# Altium footprint library PcbLib1.PcbLib: 8 footprints
Each footprint in its own frame and in the unit in brackets; x right, y up, seen from the top. Pads: shape width x height; smd on the part's side, far side on the other; paste and mask are expansions set on the pad; w line width, h text height; cw(c..) or ccw(c..) is an arc to the next point about the centre after c.
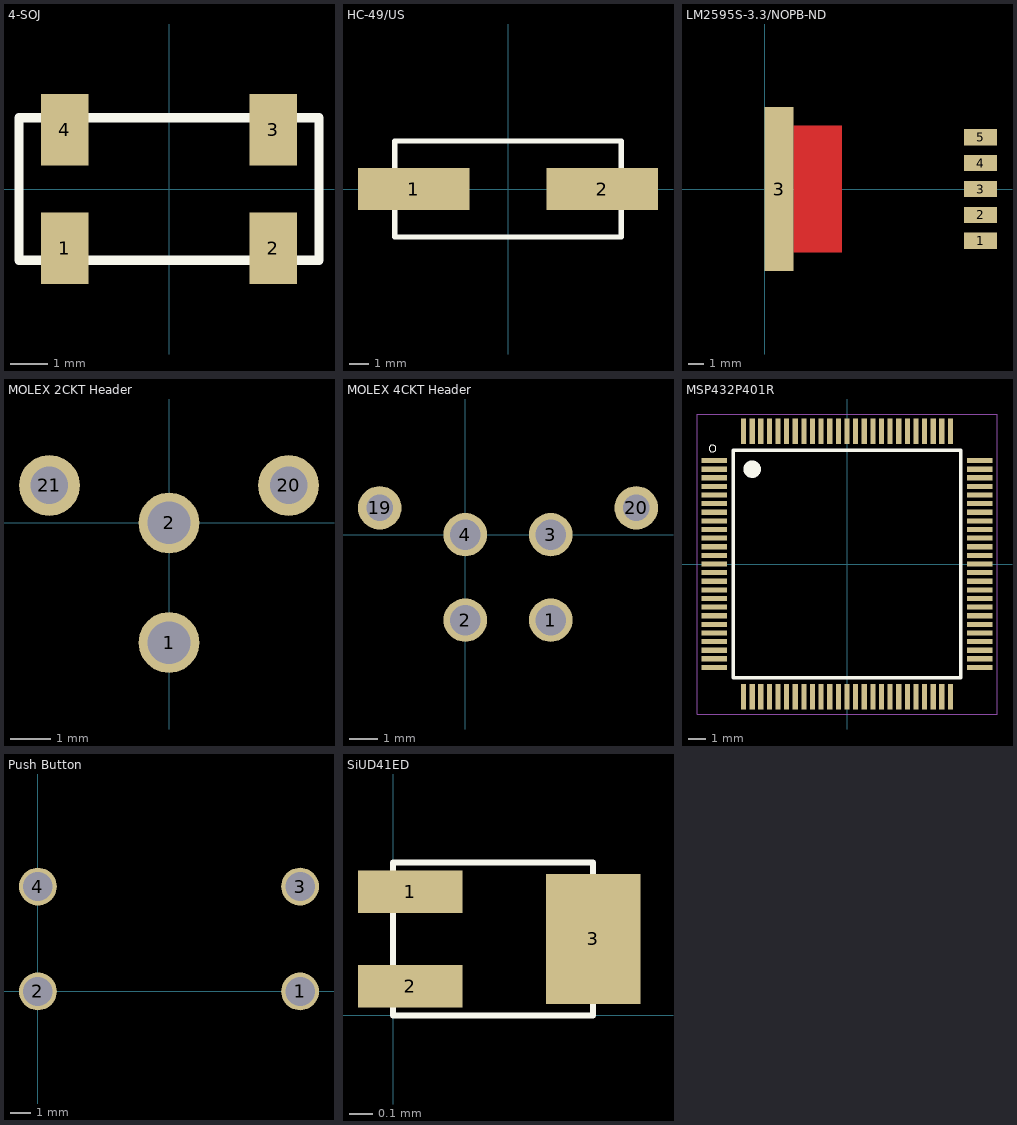
[diagram p0: the footprints below, top view; thin cyan lines are the x and y axes]

## 4-SOJ [mil]
pads (4):
  rect 50x75 smd: 1(-110,-62.5) 2(110,-62.5) 3(110,62.5) 4(-110,62.5)
Top Overlay:
  lines w10: -158,-75 158,-75 158,75 -158,75 -158,-75

## HC-49/US [mil]
pads (2):
  rect 222x83 smd: 1(-187,0) 2(187,0)
Top Overlay:
  lines w10: -225,-95 -225,95 225,95 225,-95 -225,-95

## LM2595S-3.3/NOPB-ND [mil]
pads (6):
  rect 85x42 smd: 1(558,-134) 2(558,-67) 3(558,0) 4(558,67) 5(558,134)
  rect 75x425 smd: 3(37.5,0)
Top Layer:
  rectangle: 75,-164 200,164
  rectangle: 75,-164 200,164
Top Paste:
  rectangle: 75,-164 200,164

## MOLEX 2CKT Header [mil]
pads (4):
  round 60 hole 42: 1(0,-118) 2(0,0)
  round 60 hole 37: 20(118,37) 21(-118,37)
3D body "449140201.stp": height 395.08, standoff -120.28, extent -140.74,-214.16 140.76,131.11

## MOLEX 4CKT Header [mil]
pads (6):
  round 60 hole 42: 1(118,-118) 2(0,-118) 3(118,0) 4(0,0)
  round 60 hole 37: 19(-118,37) 20(236,37)
3D body "449140401.stp": height 395.08, standoff -120.28, extent -140.74,-214.16 258.86,131.11

## MSP432P401R [mm]
pads (100):
  rect 1.5x0.3 smd: 1(-7.7,6) 2(-7.7,5.5) 3(-7.7,5) 4(-7.7,4.5) 5(-7.7,4) 6(-7.7,3.5) 7(-7.7,3) 8(-7.7,2.5) 9(-7.7,2) 10(-7.7,1.5) 11(-7.7,1) 12(-7.7,0.5) 13(-7.7,0) 14(-7.7,-0.5) 15(-7.7,-1) 16(-7.7,-1.5) 17(-7.7,-2) 18(-7.7,-2.5) 19(-7.7,-3) 20(-7.7,-3.5) 21(-7.7,-4) 22(-7.7,-4.5) 23(-7.7,-5) 24(-7.7,-5.5) 25(-7.7,-6) 51(7.7,-6) 52(7.7,-5.5) 53(7.7,-5) 54(7.7,-4.5) 55(7.7,-4) 56(7.7,-3.5) 57(7.7,-3) 58(7.7,-2.5) 59(7.7,-2) 60(7.7,-1.5) 61(7.7,-1) 62(7.7,-0.5) 63(7.7,0) 64(7.7,0.5) 65(7.7,1) 66(7.7,1.5) 67(7.7,2) 68(7.7,2.5) 69(7.7,3) 70(7.7,3.5) 71(7.7,4) 72(7.7,4.5) 73(7.7,5) 74(7.7,5.5) 75(7.7,6)
  rect 0.3x1.5 smd: 26(-6,-7.7) 27(-5.5,-7.7) 28(-5,-7.7) 29(-4.5,-7.7) 30(-4,-7.7) 31(-3.5,-7.7) 32(-3,-7.7) 33(-2.5,-7.7) 34(-2,-7.7) 35(-1.5,-7.7) 36(-1,-7.7) 37(-0.5,-7.7) 38(0,-7.7) 39(0.5,-7.7) 40(1,-7.7) 41(1.5,-7.7) 42(2,-7.7) 43(2.5,-7.7) 44(3,-7.7) 45(3.5,-7.7) 46(4,-7.7) 47(4.5,-7.7) 48(5,-7.7) 49(5.5,-7.7) 50(6,-7.7) 76(6,7.7) 77(5.5,7.7) 78(5,7.7) 79(4.5,7.7) 80(4,7.7) 81(3.5,7.7) 82(3,7.7) 83(2.5,7.7) 84(2,7.7) 85(1.5,7.7) 86(1,7.7) 87(0.5,7.7) 88(0,7.7) 89(-0.5,7.7) 90(-1,7.7) 91(-1.5,7.7) 92(-2,7.7) 93(-2.5,7.7) 94(-3,7.7) 95(-3.5,7.7) 96(-4,7.7) 97(-4.5,7.7) 98(-5,7.7) 99(-5.5,7.7) 100(-6,7.7)
Top Overlay:
  circle w0: c-7.8,6.7 r0.2
  circle w0.3: c-5.5,5.5 r0.361
  circle w0.3: c-5.5,5.5 r0.141
  lines w0.2: -6.6,-6.6 6.6,-6.6 6.6,6.6 -6.6,6.6 -6.6,-6.6
Mechanical 1:
  circle w0: c-5.5,5.5 r0.4
  lines w0.05: -8.7,-8.7 8.7,-8.7 8.7,8.7 -8.7,8.7 -8.7,-8.7

## Push Button [mm]
pads (4):
  round 1.8 hole 1.4: 1(12.5,0) 2(0,0) 3(12.5,5) 4(0,5)

## SiUD41ED [mil] "N-Channel MOSFET"
pads (3):
  rect 17.5x7.1 smd mask+1: 1(2.85,20.7) 2(2.85,4.9)
  rect 15.8x21.7 smd mask+1: 3(33.5,12.8)
Top Overlay:
  lines w1: 0,0 0,25.6 33.5,25.6 33.5,0 0,0